# Altium schematic symbol library SCH - MCU - STM32 - ST MICROELECTRONICS STM32N645B0HXQ VFBGA198.SchLib: 1 symbol
Pins are listed as number, name and electrical type; pins without a type are passive.

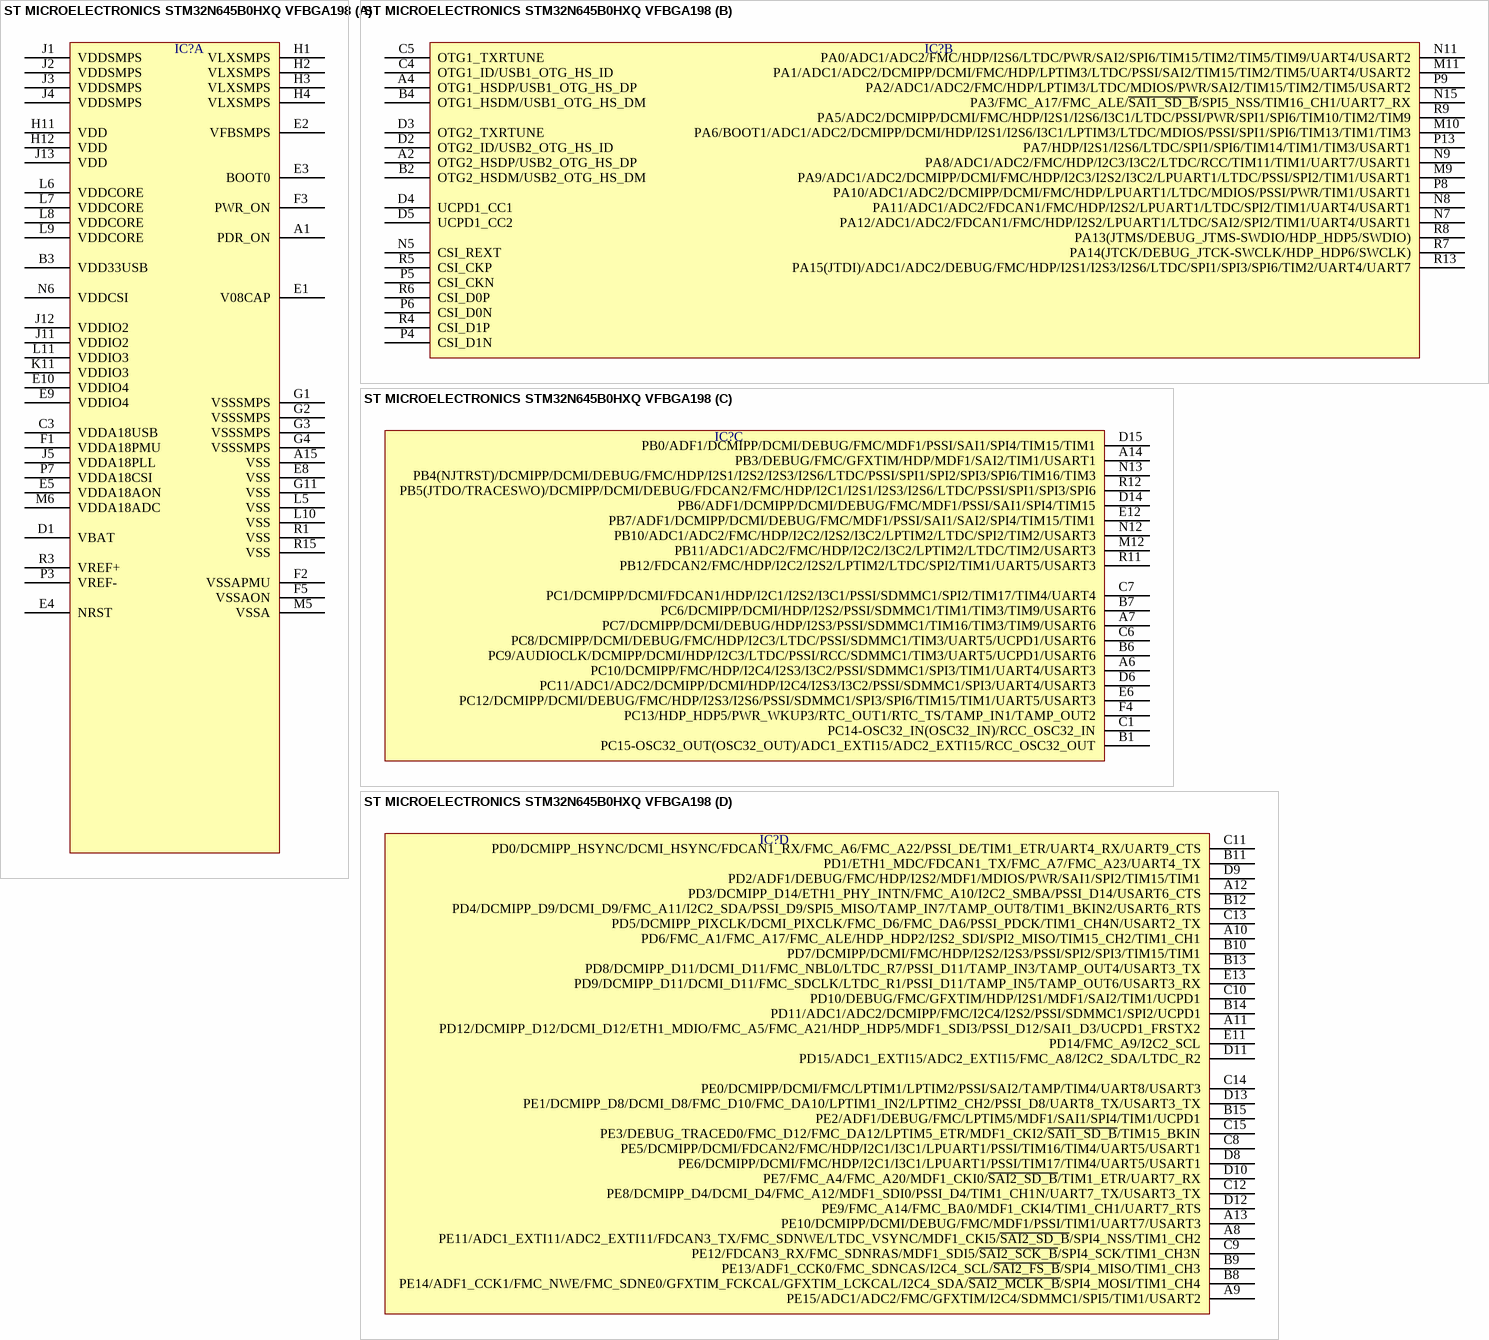
[diagram p0: symbol ST MICROELECTRONICS STM32N645B0HXQ VFBGA198]

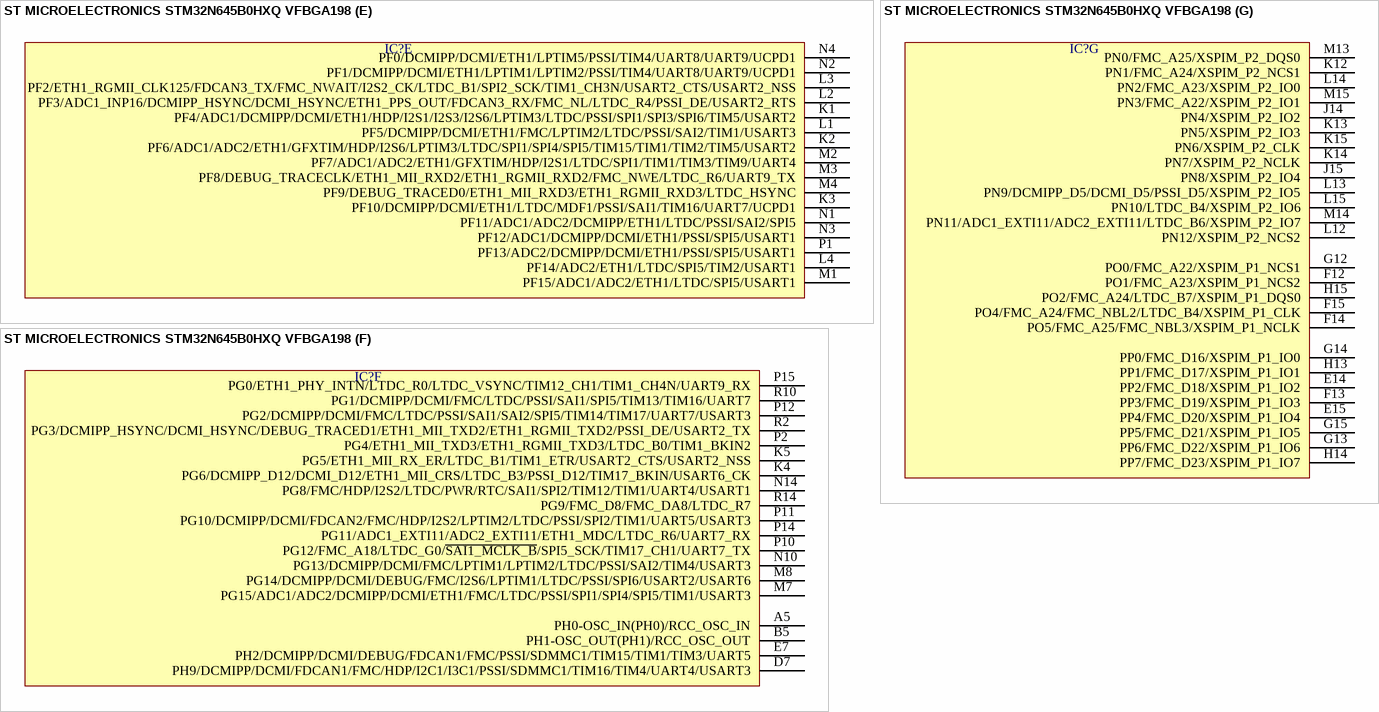
[diagram p1: symbol ST MICROELECTRONICS STM32N645B0HXQ VFBGA198]

## ST MICROELECTRONICS STM32N645B0HXQ VFBGA198
designator IC?
part A pins: A1 PDR_ON, A15 VSS, B3 VDD33USB, C3 VDDA18USB, D1 VBAT, E1 V08CAP, E2 VFBSMPS, E3 BOOT0, E4 NRST, E5 VDDA18AON, E8 VSS, E9 VDDIO4, E10 VDDIO4, F1 VDDA18PMU, F2 VSSAPMU, F3 PWR_ON, F5 VSSAON, G1 VSSSMPS, G2 VSSSMPS, G3 VSSSMPS, G4 VSSSMPS, G11 VSS, H1 VLXSMPS, H2 VLXSMPS, H3 VLXSMPS, H4 VLXSMPS, H11 VDD, H12 VDD, J1 VDDSMPS, J2 VDDSMPS, J3 VDDSMPS, J4 VDDSMPS, J5 VDDA18PLL, J11 VDDIO2, J12 VDDIO2, J13 VDD, K11 VDDIO3, L5 VSS, L6 VDDCORE, L7 VDDCORE, L8 VDDCORE, L9 VDDCORE, L10 VSS, L11 VDDIO3, M5 VSSA, M6 VDDA18ADC, N6 VDDCSI, P3 VREF-, P7 VDDA18CSI, R1 VSS, R3 VREF+, R15 VSS
part B pins: A2 OTG2_HSDP/USB2_OTG_HS_DP, A4 OTG1_HSDP/USB1_OTG_HS_DP, B2 OTG2_HSDM/USB2_OTG_HS_DM, B4 OTG1_HSDM/USB1_OTG_HS_DM, C4 OTG1_ID/USB1_OTG_HS_ID, C5 OTG1_TXRTUNE, D2 OTG2_ID/USB2_OTG_HS_ID, D3 OTG2_TXRTUNE, D4 UCPD1_CC1, D5 UCPD1_CC2, M9 PA9/ADC1/ADC2/DCMIPP/DCMI/FMC/HDP/I2C3/I2S2/I3C2/LPUART1/LTDC/PSSI/SPI2/TIM1/USART1, M10 PA6/BOOT1/ADC1/ADC2/DCMIPP/DCMI/HDP/I2S1/I2S6/I3C1/LPTIM3/LTDC/MDIOS/PSSI/SPI1/SPI6/TIM13/TIM1/TIM3, M11 PA1/ADC1/ADC2/DCMIPP/DCMI/FMC/HDP/LPTIM3/LTDC/PSSI/SAI2/TIM15/TIM2/TIM5/UART4/USART2, N5 CSI_REXT, N7 PA12/ADC1/ADC2/FDCAN1/FMC/HDP/I2S2/LPUART1/LTDC/SAI2/SPI2/TIM1/UART4/USART1, N8 PA11/ADC1/ADC2/FDCAN1/FMC/HDP/I2S2/LPUART1/LTDC/SPI2/TIM1/UART4/USART1, N9 PA8/ADC1/ADC2/FMC/HDP/I2C3/I3C2/LTDC/RCC/TIM11/TIM1/UART7/USART1, N11 PA0/ADC1/ADC2/FMC/HDP/I2S6/LTDC/PWR/SAI2/SPI6/TIM15/TIM2/TIM5/TIM9/UART4/USART2, N15 PA3/FMC_A17/FMC_ALE/~{SAI1_SD_B}/SPI5_NSS/TIM16_CH1/UART7_RX, P4 CSI_D1N, P5 CSI_CKN, P6 CSI_D0N, P8 PA10/ADC1/ADC2/DCMIPP/DCMI/FMC/HDP/LPUART1/LTDC/MDIOS/PSSI/PWR/TIM1/USART1, P9 PA2/ADC1/ADC2/FMC/HDP/LPTIM3/LTDC/MDIOS/PWR/SAI2/TIM15/TIM2/TIM5/USART2, P13 PA7/HDP/I2S1/I2S6/LTDC/SPI1/SPI6/TIM14/TIM1/TIM3/USART1, R4 CSI_D1P, R5 CSI_CKP, R6 CSI_D0P, R7 PA14(JTCK/DEBUG_JTCK-SWCLK/HDP_HDP6/SWCLK), R8 PA13(JTMS/DEBUG_JTMS-SWDIO/HDP_HDP5/SWDIO), R9 PA5/ADC2/DCMIPP/DCMI/FMC/HDP/I2S1/I2S6/I3C1/LTDC/PSSI/PWR/SPI1/SPI6/TIM10/TIM2/TIM9, R13 PA15(JTDI)/ADC1/ADC2/DEBUG/FMC/HDP/I2S1/I2S3/I2S6/LTDC/SPI1/SPI3/SPI6/TIM2/UART4/UART7
part C pins: A6 PC10/DCMIPP/FMC/HDP/I2C4/I2S3/I3C2/PSSI/SDMMC1/SPI3/TIM1/UART4/USART3, A7 PC7/DCMIPP/DCMI/DEBUG/HDP/I2S3/PSSI/SDMMC1/TIM16/TIM3/TIM9/USART6, A14 PB3/DEBUG/FMC/GFXTIM/HDP/MDF1/SAI2/TIM1/USART1, B1 PC15-OSC32_OUT(OSC32_OUT)/ADC1_EXTI15/ADC2_EXTI15/RCC_OSC32_OUT, B6 PC9/AUDIOCLK/DCMIPP/DCMI/HDP/I2C3/LTDC/PSSI/RCC/SDMMC1/TIM3/UART5/UCPD1/USART6, B7 PC6/DCMIPP/DCMI/HDP/I2S2/PSSI/SDMMC1/TIM1/TIM3/TIM9/USART6, C1 PC14-OSC32_IN(OSC32_IN)/RCC_OSC32_IN, C6 PC8/DCMIPP/DCMI/DEBUG/FMC/HDP/I2C3/LTDC/PSSI/SDMMC1/TIM3/UART5/UCPD1/USART6, C7 PC1/DCMIPP/DCMI/FDCAN1/HDP/I2C1/I2S2/I3C1/PSSI/SDMMC1/SPI2/TIM17/TIM4/UART4, D6 PC11/ADC1/ADC2/DCMIPP/DCMI/HDP/I2C4/I2S3/I3C2/PSSI/SDMMC1/SPI3/UART4/USART3, D14 PB6/ADF1/DCMIPP/DCMI/DEBUG/FMC/MDF1/PSSI/SAI1/SPI4/TIM15, D15 PB0/ADF1/DCMIPP/DCMI/DEBUG/FMC/MDF1/PSSI/SAI1/SPI4/TIM15/TIM1, E6 PC12/DCMIPP/DCMI/DEBUG/FMC/HDP/I2S3/I2S6/PSSI/SDMMC1/SPI3/SPI6/TIM15/TIM1/UART5/USART3, E12 PB7/ADF1/DCMIPP/DCMI/DEBUG/FMC/MDF1/PSSI/SAI1/SAI2/SPI4/TIM15/TIM1, F4 PC13/HDP_HDP5/PWR_WKUP3/RTC_OUT1/RTC_TS/TAMP_IN1/TAMP_OUT2, M12 PB11/ADC1/ADC2/FMC/HDP/I2C2/I3C2/LPTIM2/LTDC/TIM2/USART3, N12 PB10/ADC1/ADC2/FMC/HDP/I2C2/I2S2/I3C2/LPTIM2/LTDC/SPI2/TIM2/USART3, N13 PB4(NJTRST)/DCMIPP/DCMI/DEBUG/FMC/HDP/I2S1/I2S2/I2S3/I2S6/LTDC/PSSI/SPI1/SPI2/SPI3/SPI6/TIM16/TIM3, R11 PB12/FDCAN2/FMC/HDP/I2C2/I2S2/LPTIM2/LTDC/SPI2/TIM1/UART5/USART3, R12 PB5(JTDO/TRACESWO)/DCMIPP/DCMI/DEBUG/FDCAN2/FMC/HDP/I2C1/I2S1/I2S3/I2S6/LTDC/PSSI/SPI1/SPI3/SPI6
part D pins: A8 PE11/ADC1_EXTI11/ADC2_EXTI11/FDCAN3_TX/FMC_SDNWE/LTDC_VSYNC/MDF1_CKI5/~{SAI2_SD_B}/SPI4_NSS/TIM1_CH2, A9 PE15/ADC1/ADC2/FMC/GFXTIM/I2C4/SDMMC1/SPI5/TIM1/USART2, A10 PD6/FMC_A1/FMC_A17/FMC_ALE/HDP_HDP2/I2S2_SDI/SPI2_MISO/TIM15_CH2/TIM1_CH1, A11 PD12/DCMIPP_D12/DCMI_D12/ETH1_MDIO/FMC_A5/FMC_A21/HDP_HDP5/MDF1_SDI3/PSSI_D12/SAI1_D3/UCPD1_FRSTX2, A12 PD3/DCMIPP_D14/ETH1_PHY_INTN/FMC_A10/I2C2_SMBA/PSSI_D14/USART6_CTS, A13 PE10/DCMIPP/DCMI/DEBUG/FMC/MDF1/PSSI/TIM1/UART7/USART3, B8 PE14/ADF1_CCK1/FMC_NWE/FMC_SDNE0/GFXTIM_FCKCAL/GFXTIM_LCKCAL/I2C4_SDA/~{SAI2_MCLK_B}/SPI4_MOSI/TIM1_CH4, B9 PE13/ADF1_CCK0/FMC_SDNCAS/I2C4_SCL/~{SAI2_FS_B}/SPI4_MISO/TIM1_CH3, B10 PD7/DCMIPP/DCMI/FMC/HDP/I2S2/I2S3/PSSI/SPI2/SPI3/TIM15/TIM1, B11 PD1/ETH1_MDC/FDCAN1_TX/FMC_A7/FMC_A23/UART4_TX, B12 PD4/DCMIPP_D9/DCMI_D9/FMC_A11/I2C2_SDA/PSSI_D9/SPI5_MISO/TAMP_IN7/TAMP_OUT8/TIM1_BKIN2/USART6_RTS, B13 PD8/DCMIPP_D11/DCMI_D11/FMC_NBL0/LTDC_R7/PSSI_D11/TAMP_IN3/TAMP_OUT4/USART3_TX, B14 PD11/ADC1/ADC2/DCMIPP/FMC/I2C4/I2S2/PSSI/SDMMC1/SPI2/UCPD1, B15 PE2/ADF1/DEBUG/FMC/LPTIM5/MDF1/SAI1/SPI4/TIM1/UCPD1, C8 PE5/DCMIPP/DCMI/FDCAN2/FMC/HDP/I2C1/I3C1/LPUART1/PSSI/TIM16/TIM4/UART5/USART1, C9 PE12/FDCAN3_RX/FMC_SDNRAS/MDF1_SDI5/~{SAI2_SCK_B}/SPI4_SCK/TIM1_CH3N, C10 PD10/DEBUG/FMC/GFXTIM/HDP/I2S1/MDF1/SAI2/TIM1/UCPD1, C11 PD0/DCMIPP_HSYNC/DCMI_HSYNC/FDCAN1_RX/FMC_A6/FMC_A22/PSSI_DE/TIM1_ETR/UART4_RX/UART9_CTS, C12 PE8/DCMIPP_D4/DCMI_D4/FMC_A12/MDF1_SDI0/PSSI_D4/TIM1_CH1N/UART7_TX/USART3_TX, C13 PD5/DCMIPP_PIXCLK/DCMI_PIXCLK/FMC_D6/FMC_DA6/PSSI_PDCK/TIM1_CH4N/USART2_TX, C14 PE0/DCMIPP/DCMI/FMC/LPTIM1/LPTIM2/PSSI/SAI2/TAMP/TIM4/UART8/USART3, C15 PE3/DEBUG_TRACED0/FMC_D12/FMC_DA12/LPTIM5_ETR/MDF1_CKI2/~{SAI1_SD_B}/TIM15_BKIN, D8 PE6/DCMIPP/DCMI/FMC/HDP/I2C1/I3C1/LPUART1/PSSI/TIM17/TIM4/UART5/USART1, D9 PD2/ADF1/DEBUG/FMC/HDP/I2S2/MDF1/MDIOS/PWR/SAI1/SPI2/TIM15/TIM1, D10 PE7/FMC_A4/FMC_A20/MDF1_CKI0/~{SAI2_SD_B}/TIM1_ETR/UART7_RX, D11 PD15/ADC1_EXTI15/ADC2_EXTI15/FMC_A8/I2C2_SDA/LTDC_R2, D12 PE9/FMC_A14/FMC_BA0/MDF1_CKI4/TIM1_CH1/UART7_RTS, D13 PE1/DCMIPP_D8/DCMI_D8/FMC_D10/FMC_DA10/LPTIM1_IN2/LPTIM2_CH2/PSSI_D8/UART8_TX/USART3_TX, E11 PD14/FMC_A9/I2C2_SCL, E13 PD9/DCMIPP_D11/DCMI_D11/FMC_SDCLK/LTDC_R1/PSSI_D11/TAMP_IN5/TAMP_OUT6/USART3_RX
part E pins: K1 PF4/ADC1/DCMIPP/DCMI/ETH1/HDP/I2S1/I2S3/I2S6/LPTIM3/LTDC/PSSI/SPI1/SPI3/SPI6/TIM5/USART2, K2 PF6/ADC1/ADC2/ETH1/GFXTIM/HDP/I2S6/LPTIM3/LTDC/SPI1/SPI4/SPI5/TIM15/TIM1/TIM2/TIM5/USART2, K3 PF10/DCMIPP/DCMI/ETH1/LTDC/MDF1/PSSI/SAI1/TIM16/UART7/UCPD1, L1 PF5/DCMIPP/DCMI/ETH1/FMC/LPTIM2/LTDC/PSSI/SAI2/TIM1/USART3, L2 PF3/ADC1_INP16/DCMIPP_HSYNC/DCMI_HSYNC/ETH1_PPS_OUT/FDCAN3_RX/FMC_NL/LTDC_R4/PSSI_DE/USART2_RTS, L3 PF2/ETH1_RGMII_CLK125/FDCAN3_TX/FMC_NWAIT/I2S2_CK/LTDC_B1/SPI2_SCK/TIM1_CH3N/USART2_CTS/USART2_NSS, L4 PF14/ADC2/ETH1/LTDC/SPI5/TIM2/USART1, M1 PF15/ADC1/ADC2/ETH1/LTDC/SPI5/USART1, M2 PF7/ADC1/ADC2/ETH1/GFXTIM/HDP/I2S1/LTDC/SPI1/TIM1/TIM3/TIM9/UART4, M3 PF8/DEBUG_TRACECLK/ETH1_MII_RXD2/ETH1_RGMII_RXD2/FMC_NWE/LTDC_R6/UART9_TX, M4 PF9/DEBUG_TRACED0/ETH1_MII_RXD3/ETH1_RGMII_RXD3/LTDC_HSYNC, N1 PF11/ADC1/ADC2/DCMIPP/ETH1/LTDC/PSSI/SAI2/SPI5, N2 PF1/DCMIPP/DCMI/ETH1/LPTIM1/LPTIM2/PSSI/TIM4/UART8/UART9/UCPD1, N3 PF12/ADC1/DCMIPP/DCMI/ETH1/PSSI/SPI5/USART1, N4 PF0/DCMIPP/DCMI/ETH1/LPTIM5/PSSI/TIM4/UART8/UART9/UCPD1, P1 PF13/ADC2/DCMIPP/DCMI/ETH1/PSSI/SPI5/USART1
part F pins: A5 PH0-OSC_IN(PH0)/RCC_OSC_IN, B5 PH1-OSC_OUT(PH1)/RCC_OSC_OUT, D7 PH9/DCMIPP/DCMI/FDCAN1/FMC/HDP/I2C1/I3C1/PSSI/SDMMC1/TIM16/TIM4/UART4/USART3, E7 PH2/DCMIPP/DCMI/DEBUG/FDCAN1/FMC/PSSI/SDMMC1/TIM15/TIM1/TIM3/UART5, K4 PG6/DCMIPP_D12/DCMI_D12/ETH1_MII_CRS/LTDC_B3/PSSI_D12/TIM17_BKIN/USART6_CK, K5 PG5/ETH1_MII_RX_ER/LTDC_B1/TIM1_ETR/USART2_CTS/USART2_NSS, M7 PG15/ADC1/ADC2/DCMIPP/DCMI/ETH1/FMC/LTDC/PSSI/SPI1/SPI4/SPI5/TIM1/USART3, M8 PG14/DCMIPP/DCMI/DEBUG/FMC/I2S6/LPTIM1/LTDC/PSSI/SPI6/USART2/USART6, N10 PG13/DCMIPP/DCMI/FMC/LPTIM1/LPTIM2/LTDC/PSSI/SAI2/TIM4/USART3, N14 PG8/FMC/HDP/I2S2/LTDC/PWR/RTC/SAI1/SPI2/TIM12/TIM1/UART4/USART1, P2 PG4/ETH1_MII_TXD3/ETH1_RGMII_TXD3/LTDC_B0/TIM1_BKIN2, P10 PG12/FMC_A18/LTDC_G0/~{SAI1_MCLK_B}/SPI5_SCK/TIM17_CH1/UART7_TX, P11 PG10/DCMIPP/DCMI/FDCAN2/FMC/HDP/I2S2/LPTIM2/LTDC/PSSI/SPI2/TIM1/UART5/USART3, P12 PG2/DCMIPP/DCMI/FMC/LTDC/PSSI/SAI1/SAI2/SPI5/TIM14/TIM17/UART7/USART3, P14 PG11/ADC1_EXTI11/ADC2_EXTI11/ETH1_MDC/LTDC_R6/UART7_RX, P15 PG0/ETH1_PHY_INTN/LTDC_R0/LTDC_VSYNC/TIM12_CH1/TIM1_CH4N/UART9_RX, R2 PG3/DCMIPP_HSYNC/DCMI_HSYNC/DEBUG_TRACED1/ETH1_MII_TXD2/ETH1_RGMII_TXD2/PSSI_DE/USART2_TX, R10 PG1/DCMIPP/DCMI/FMC/LTDC/PSSI/SAI1/SPI5/TIM13/TIM16/UART7, R14 PG9/FMC_D8/FMC_DA8/LTDC_R7
part G pins: E14 PP2/FMC_D18/XSPIM_P1_IO2, E15 PP4/FMC_D20/XSPIM_P1_IO4, F12 PO1/FMC_A23/XSPIM_P1_NCS2, F13 PP3/FMC_D19/XSPIM_P1_IO3, F14 PO5/FMC_A25/FMC_NBL3/XSPIM_P1_NCLK, F15 PO4/FMC_A24/FMC_NBL2/LTDC_B4/XSPIM_P1_CLK, G12 PO0/FMC_A22/XSPIM_P1_NCS1, G13 PP6/FMC_D22/XSPIM_P1_IO6, G14 PP0/FMC_D16/XSPIM_P1_IO0, G15 PP5/FMC_D21/XSPIM_P1_IO5, H13 PP1/FMC_D17/XSPIM_P1_IO1, H14 PP7/FMC_D23/XSPIM_P1_IO7, H15 PO2/FMC_A24/LTDC_B7/XSPIM_P1_DQS0, J14 PN4/XSPIM_P2_IO2, J15 PN8/XSPIM_P2_IO4, K12 PN1/FMC_A24/XSPIM_P2_NCS1, K13 PN5/XSPIM_P2_IO3, K14 PN7/XSPIM_P2_NCLK, K15 PN6/XSPIM_P2_CLK, L12 PN12/XSPIM_P2_NCS2, L13 PN9/DCMIPP_D5/DCMI_D5/PSSI_D5/XSPIM_P2_IO5, L14 PN2/FMC_A23/XSPIM_P2_IO0, L15 PN10/LTDC_B4/XSPIM_P2_IO6, M13 PN0/FMC_A25/XSPIM_P2_DQS0, M14 PN11/ADC1_EXTI11/ADC2_EXTI11/LTDC_B6/XSPIM_P2_IO7, M15 PN3/FMC_A22/XSPIM_P2_IO1